# EAGLE library part 4CH_ANALOG_SELECTOR (library lib)
Analog selector Analog Switch ICs SWITCH 4X SPDT +/-5V 18OHM IND
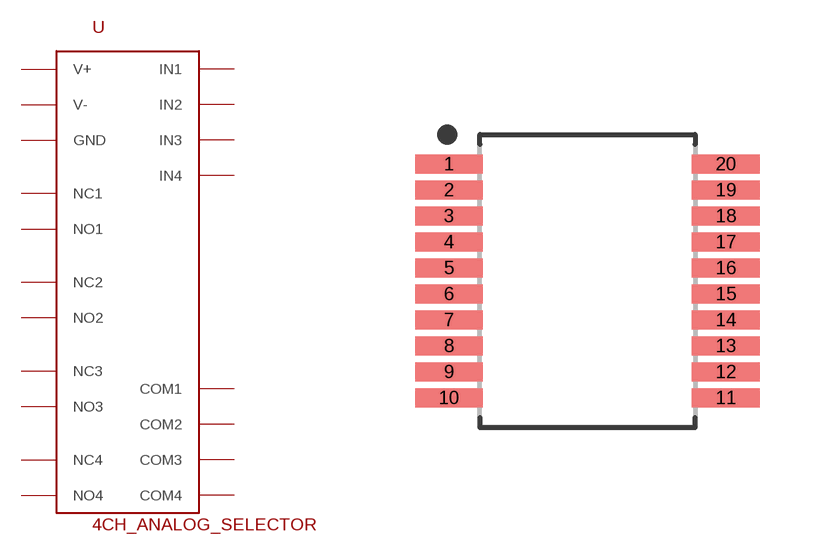
[diagram p5: symbol with the pads of SOP65P777X173-20N; footprint SOP65P777X173-20N]

Designator prefix U

## 4CH_ANALOG_SELECTORSSOP-20 (LINK: https://www.mouser.se/ProductDetail/Renesas-Intersil/ISL43240IAZ?qs=9fLuogzTs8JpyGgSuWMglw%3D%3D; MOUSERNR: 968-ISL43240IAZ; MPN: ISL43240IAZ; SUPPLIER: Mouser)  [SOP65P777X173-20N]
1  IN1  in
2  NO1
3  COM1
4  NC1
5  V-  sup
6  GND  sup
7  NC2
8  COM2
9  NO2
10  IN2  in
11  IN3  in
12  NO3
13  COM3
14  NC3
16  V+  pwr
17  NC4
18  COM4
19  NO4
20  IN4  in

## Footprint SOP65P777X173-20N (pad centres in mm)
20-SOP, 0.65 mm pitch, 7.78 mm span, 7.20 X 5.29 X 1.73 mm body 20-pin SOP package with 0.65 mm pitch, 7.78 mm span with body size 7.20 X 5.29 X 1.73 mm
smd 1.7 x 0.481: 1 -3.462,2.925; 2 -3.462,2.275; 3 -3.462,1.625; 4 -3.462,0.975; 5 -3.462,0.325; 6 -3.462,-0.325; 7 -3.462,-0.975; 8 -3.462,-1.625; 9 -3.462,-2.275; 10 -3.462,-2.925; 11 3.462,-2.925; 12 3.462,-2.275; 13 3.462,-1.625; 14 3.462,-0.975; 15 3.462,-0.325; 16 3.462,0.325; 17 3.462,0.975; 18 3.462,1.625; 19 3.462,2.275; 20 3.462,2.925